# Altium footprint library BLDC.PcbLib: 51 footprints (part 3 of 4)
Each footprint in its own frame and in the unit in brackets; x right, y up, seen from the top. Pads: shape width x height; smd on the part's side, far side on the other; paste and mask are expansions set on the pad; w line width, h text height; cw(c..) or ccw(c..) is an arc to the next point about the centre after c.
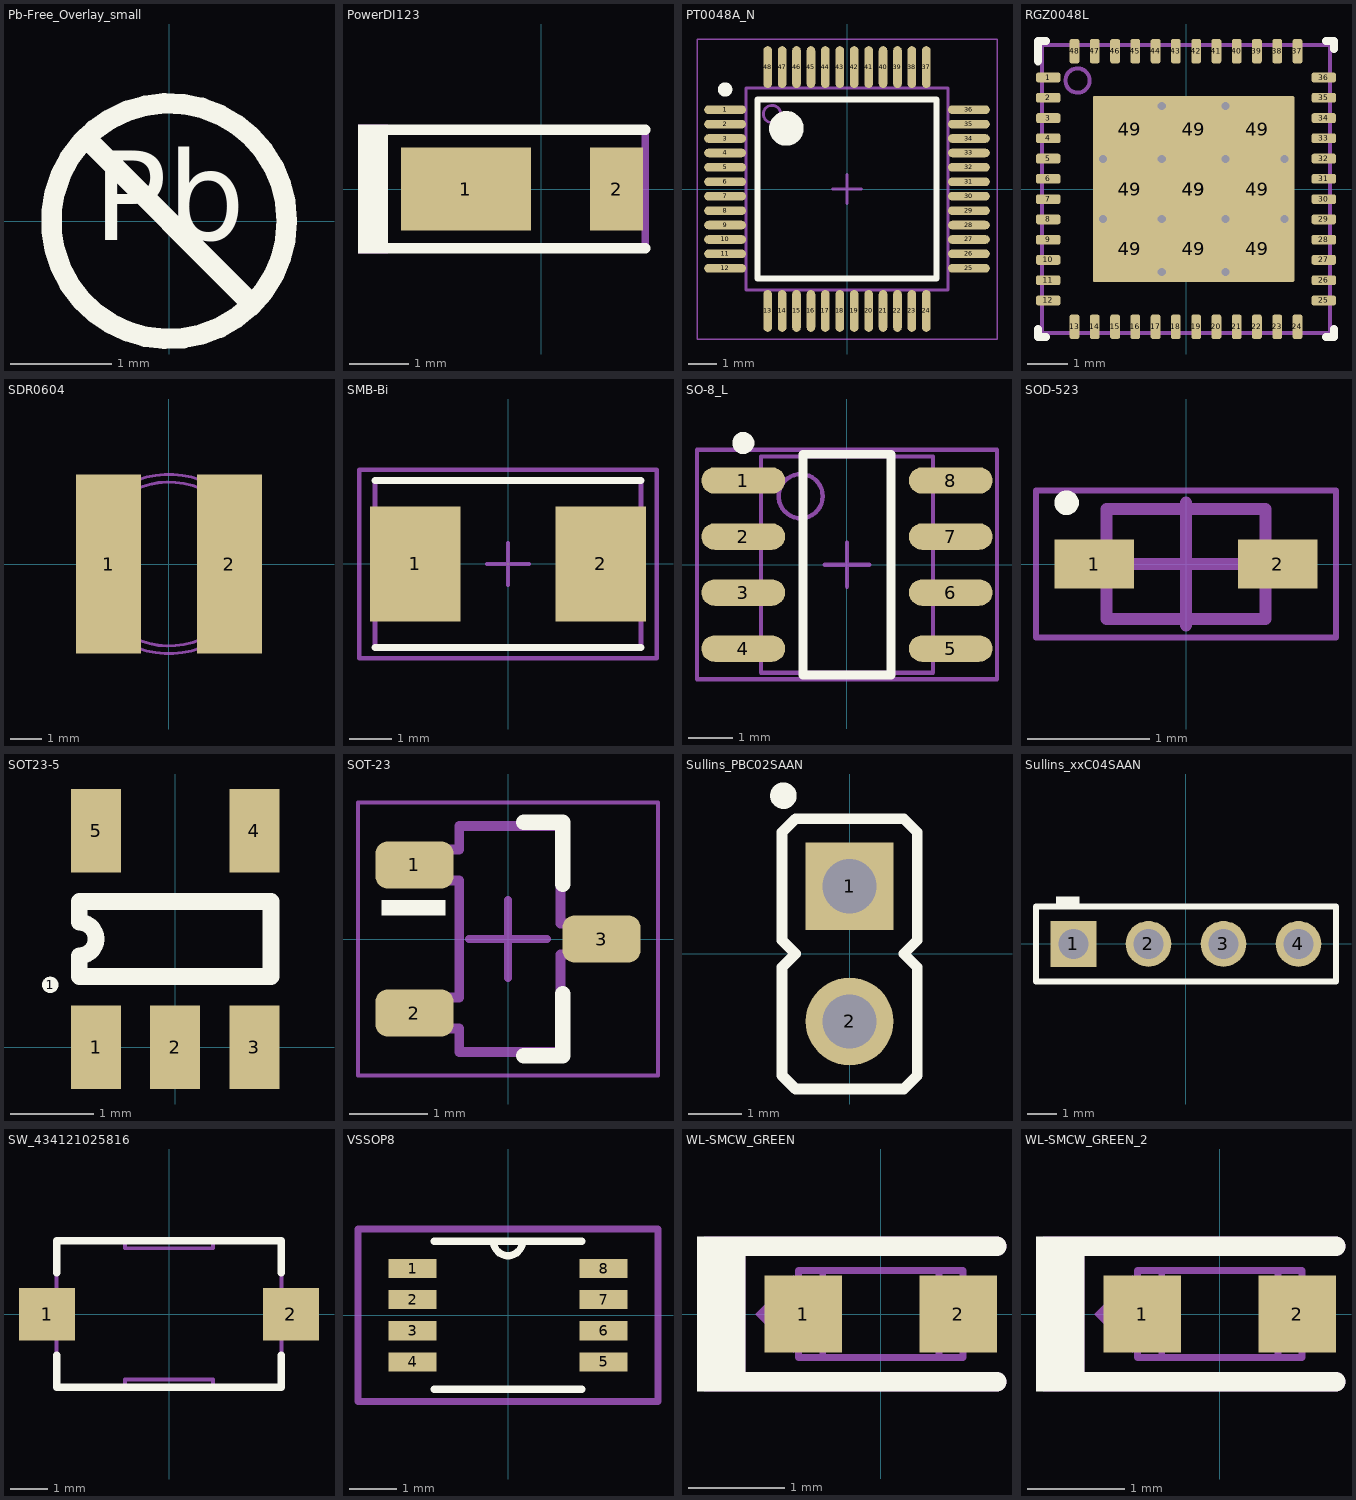
[diagram p2: the footprints below, top view; thin cyan lines are the x and y axes]

## Pb-Free_Overlay_small [mm]
height 1.45
Top Overlay:
  circle w0.203: c0,0 r1.168
  lines w0.203: -0.826,0.826 0.826,-0.826
  text "Pb" at -0.752,-0.48 h1.52

## PowerDI123 [mm] "Diodes Inc recommended land pattern, document number DS30628 Rev. 6-2"
height 1
pads (2):
  rect 2.2x1.4 smd: 1(-1.275,0)
  rect 0.9x1.4 smd: 2(1.275,0)
Top Overlay:
  rectangle: -3.099,-1.092 -2.591,1.092
  lines w0.178: -2.946,-1.003 1.759,-1.003 ; -2.946,1.003 1.759,1.003
Mechanical 5:
  rectangle: -3.099,-1.092 -2.591,1.092
  lines w0.127: -2.946,-1.003 1.759,-1.003 1.759,1.003 -2.946,1.003
  text ".Designator" at -2.35,-0.275 h0.76
3D body: height 1, standoff 0, extent -2.375,-0.965 1.525,0.965

## PT0048A_N [mm] "Thin QFP, 48-Leads, Body 7x7mm, Pitch 0.5mm, IPC Medium Density"
height 1.6
pads (48):
  oval 1.45x0.3 smd: 1(-4.225,2.75) 2(-4.225,2.25) 3(-4.225,1.75) 4(-4.225,1.25) 5(-4.225,0.75) 6(-4.225,0.25) 7(-4.225,-0.25) 8(-4.225,-0.75) 9(-4.225,-1.25) 10(-4.225,-1.75) 11(-4.225,-2.25) 12(-4.225,-2.75) 25(4.225,-2.75) 26(4.225,-2.25) 27(4.225,-1.75) 28(4.225,-1.25) 29(4.225,-0.75) 30(4.225,-0.25) 31(4.225,0.25) 32(4.225,0.75) 33(4.225,1.25) 34(4.225,1.75) 35(4.225,2.25) 36(4.225,2.75)
  oval 0.3x1.45 smd: 13(-2.75,-4.225) 14(-2.25,-4.225) 15(-1.75,-4.225) 16(-1.25,-4.225) 17(-0.75,-4.225) 18(-0.25,-4.225) 19(0.25,-4.225) 20(0.75,-4.225) 21(1.25,-4.225) 22(1.75,-4.225) 23(2.25,-4.225) 24(2.75,-4.225) 37(2.75,4.225) 38(2.25,4.225) 39(1.75,4.225) 40(1.25,4.225) 41(0.75,4.225) 42(0.25,4.225) 43(-0.25,4.225) 44(-0.75,4.225) 45(-1.25,4.225) 46(-1.75,4.225) 47(-2.25,4.225) 48(-2.75,4.225)
Top Overlay:
  circle w0.25: c-4.225,3.45 r0.125
  circle w0.6: c-2.1,2.1 r0.3
  lines w0.2: -3.1,-3.1 -3.1,3.1 3.1,3.1 3.1,-3.1 -3.1,-3.1
Mechanical 5:
  circle w0.1: c-2.6,2.6 r0.3
  lines w0.1: -3.5,-3.5 -3.5,3.5 3.5,3.5 3.5,-3.5 -3.5,-3.5
  text ".Designator" at -1.854,-0.508 h1.02
Mechanical 15:
  lines w0.05: -5.2,-5.2 -5.2,5.2 5.2,5.2 5.2,-5.2 -5.2,-5.2
  lines w0.1: -0.5,0 0.5,0 ; 0,-0.5 0,0.5
3D body: height 1.5, standoff 0, extent -4.508,-4.508 4.508,4.508

## RGZ0048L [mm] "QFN, 48-Leads, Body 7x7mm, Pitch 0.5mm, Thermal Pad 4.975x4.6mm, TI Recommended"
height 1
pads (58):
  rrect42% 0.6x0.24 smd: 1(-3.4,2.75) 2(-3.4,2.25) 3(-3.4,1.75) 4(-3.4,1.25) 5(-3.4,0.75) 6(-3.4,0.25) 7(-3.4,-0.25) 8(-3.4,-0.75) 9(-3.4,-1.25) 10(-3.4,-1.75) 11(-3.4,-2.25) 12(-3.4,-2.75) 25(3.4,-2.75) 26(3.4,-2.25) 27(3.4,-1.75) 28(3.4,-1.25) 29(3.4,-0.75) 30(3.4,-0.25) 31(3.4,0.25) 32(3.4,0.75) 33(3.4,1.25) 34(3.4,1.75) 35(3.4,2.25) 36(3.4,2.75)
  rrect42% 0.24x0.6 smd: 13(-2.75,-3.4) 14(-2.25,-3.4) 15(-1.75,-3.4) 16(-1.25,-3.4) 17(-0.75,-3.4) 18(-0.25,-3.4) 19(0.25,-3.4) 20(0.75,-3.4) 21(1.25,-3.4) 22(1.75,-3.4) 23(2.25,-3.4) 24(2.75,-3.4) 37(2.75,3.4) 38(2.25,3.4) 39(1.75,3.4) 40(1.25,3.4) 41(0.75,3.4) 42(0.25,3.4) 43(-0.25,3.4) 44(-0.75,3.4) 45(-1.25,3.4) 46(-1.75,3.4) 47(-2.25,3.4) 48(-2.75,3.4)
  rrect50% 1.37x1.28 on Top Paste: 49(-1.382,-1.48) 49(-1.382,0) 49(-1.382,1.48) 49(0.188,-1.48) 49(0.188,0) 49(0.188,1.48) 49(1.758,-1.48) 49(1.758,0) 49(1.758,1.48)
  rrect2% 4.975x4.6 smd paste-2.575: 49(0.188,0)
via -2.05,0.74 diameter 0.5 hole 0.2
via -0.597,0.74 diameter 0.5 hole 0.2
via 2.426,-0.74 diameter 0.5 hole 0.2
via 2.426,0.74 diameter 0.5 hole 0.2
via -0.597,2.05 diameter 0.5 hole 0.2
via 0.973,2.05 diameter 0.5 hole 0.2
via 0.973,0.74 diameter 0.5 hole 0.2
via 0.973,-2.05 diameter 0.5 hole 0.2
via -2.05,-0.74 diameter 0.5 hole 0.2
via -0.597,-2.05 diameter 0.5 hole 0.2
via 0.973,-0.74 diameter 0.5 hole 0.2
via -0.597,-0.74 diameter 0.5 hole 0.2
Top Overlay:
  lines w0.2: -3.65,-3.45 -3.65,-3.65 -3.45,-3.65 ; -3.65,3.15 -3.65,3.65 -3.45,3.65 ; 3.45,-3.65 3.65,-3.65 3.65,-3.45 ; 3.45,3.65 3.65,3.65 3.65,3.45
Mechanical 5:
  circle w0.1: c-2.675,2.675 r0.3
  lines w0.1: -3.55,-3.55 -3.55,3.55 3.55,3.55 3.55,-3.55 -3.55,-3.55
  text ".Designator" at -2,-0.7 h1.85
3D body: height 1, standoff 0, extent -3.5,-3.5 3.5,3.5

## SDR0604 [mm] "BOURNS"
height 4.8
pads (2):
  rect 2.1x5.8 smd: 1(-1.95,0) 2(1.95,0)
Mechanical 5:
  circle w0.1: c0,0 r2.65
  circle w0.1: c0,0 r2.9
  text ".Designator" at -1.675,-0.5 h1
3D body: height 3.8, standoff 1.2, extent -2.658,-2.658 2.658,2.658
3D body: height 4.8, standoff 3.8, extent -2.908,-2.908 2.908,2.908
3D body: height 1.2, standoff 0, extent -2.908,-2.908 2.908,2.908

## SMB-Bi [mm] "Molded Diode, 2-Leads, Body 5.4x3.6mm, IPC Medium Density, based on OnSemi component dimensions"
height 2.65
pads (2):
  rect 2.159x2.743 smd: 1(-2.21,0) 2(2.21,0)
Top Overlay:
  lines w0.178: -3.175,-1.994 3.175,-1.994 ; -3.175,1.994 3.175,1.994
Mechanical 5:
  lines w0.127: -3.175,-1.994 -3.175,-1.765 -3.175,1.765 -3.175,1.994 3.175,1.994 3.175,1.765 3.175,-1.765 3.175,-1.994 -3.175,-1.994
  text ".Designator" at -2.311,-0.508 h1.02
Mechanical 15:
  lines w0.1: -0.5,0 0.5,0 ; 0,-0.5 0,0.5 ; -3.55,-2.25 3.55,-2.25 3.55,2.25 -3.55,2.25 -3.55,-2.25
3D body: height 2.26, standoff 0.01, extent -2.65,-1.85 2.65,1.85

## SO-8_L [mm] "SOIC, 8-Leads, Body 4.9x3.9mm, Pitch 1.27mm, IPC High Density"
height 1.75
pads (8):
  oval 1.9x0.6 smd: 1(-2.35,1.905) 2(-2.35,0.635) 3(-2.35,-0.635) 4(-2.35,-1.905) 5(2.35,-1.905) 6(2.35,-0.635) 7(2.35,0.635) 8(2.35,1.905)
Top Overlay:
  circle w0.25: c-2.35,2.755 r0.125
  lines w0.2: -1,-2.5 1,-2.5 1,2.5 -1,2.5 -1,-2.5
Mechanical 13:
  circle w0.1: c-1.05,1.55 r0.5
  lines w0.1: -1.95,-2.45 -1.95,2.45 1.95,2.45 1.95,-2.45 -1.95,-2.45
  text ".Designator" at 0,0 h1.52
Mechanical 15:
  lines w0.1: -0.5,0 0.5,0 ; 0,-0.5 0,0.5 ; -3.4,-2.6 3.4,-2.6 3.4,2.6 -3.4,2.6 -3.4,-2.6
3D body: height 1.45, standoff 0, extent -2.889,-2.413 2.889,2.489

## SOD-523 [mm] "SODFL, 2-Leads, Body 0.80x1.60mm, IPC Medium Density"
height 0.7
pads (2):
  rect 0.65x0.4 smd: 1(-0.75,0) 2(0.75,0)
Top Overlay:
  circle w0.1: c-0.975,0.5 r0.05
Mechanical 13:
  lines w0.1: -0.65,-0.45 0.65,-0.45 0.65,0.45 -0.65,0.45 -0.65,-0.45
Mechanical 15:
  lines w0.05: -1.225,-0.6 1.225,-0.6 1.225,0.6 -1.225,0.6 -1.225,-0.6
  lines w0.1: -0.5,0 0.5,0 ; 0,-0.5 0,0.5
3D body: height 0.7, standoff 0, extent -0.65,-0.45 0.65,0.45

## SOT23-5 [mm] "SOT23-5 SMD"
height 2
pads (6):
  round 0.2 on Top Overlay: 1(-1.5,0.75)
  rect 0.6x1 smd: 1(-0.95,0) 2(0,0) 3(0.95,0) 4(0.95,2.6) 5(-0.95,2.6)
Top Overlay:
  lines w0.2: -1.15,0.85 -1.15,1.1 ccw(c-1.15,1.3) -1.15,1.5 -1.15,1.75 1.15,1.75 1.15,0.85 -1.15,0.85
3D body: height 1, standoff 0, extent -1.46,0.13 1.46,2.47

## SOT-23 [mm] "SOT23, 3-Leads, Body 2.9x1.3mm, Pitch 0.95mm, Lead Span 2.5mm, IPC Medium Density"
height 1.1
pads (3):
  rrect50% 1x0.6 smd: 1(-1.2,0.95) 2(-1.2,-0.95) 3(1.2,0)
Top Overlay:
  rectangle: -1.625,0.3 -0.8,0.5
  lines w0.2: 0.2,-1.5 0.7,-1.5 0.7,-0.7 ; 0.2,1.5 0.7,1.5 0.7,0.7
Mechanical 5:
  lines w0.127: -1.16,-1.15 -1.16,-0.75 -0.625,-0.75 -0.625,0.75 -1.16,0.75 -1.16,1.15 -0.625,1.15 -0.625,1.45 0.675,1.45 0.675,0.2 1.21,0.2 1.21,-0.2 0.675,-0.2 0.675,-1.45 -0.625,-1.45 -0.625,-1.15 -1.16,-1.15
  text ".Designator" at -0.175,1.225 h0.64
Mechanical 15:
  lines w0.05: -1.925,-1.75 1.925,-1.75 1.925,1.75 -1.925,1.75 -1.925,-1.75
  lines w0.1: -0.5,0 0.5,0 ; 0,-0.5 0,0.5
3D body: height 1, standoff 0, extent -1.16,-1.45 1.21,1.45

## Sullins_PBC02SAAN [mm] "Sullins 100mil, 1x2, 230 mil above insulator"
height 8.382
pads (2):
  rect 1.65x1.65 hole 1.016: 1(0,1.27)
  round 1.65 hole 1.016: 2(0,-1.27)
Top Overlay:
  circle w0.25: c-1.245,2.972 r0.125
  lines w0.2: -1.27,-2.286 -1.27,-0.254 -1.016,0 -1.27,0.254 -1.27,2.286 -1.016,2.54 1.016,2.54 1.27,2.286 1.27,0.254 1.016,0 1.27,-0.254 1.27,-2.286 1.016,-2.54 -1.016,-2.54 -1.27,-2.286
Mechanical 5:
  lines w0.1: -1.27,-2.286 -1.016,-2.54 1.016,-2.54 1.27,-2.286 1.27,-0.254 1.016,0 1.27,0.254 1.27,2.286 1.016,2.54 -1.016,2.54 -1.27,2.286 -1.27,0.254 -1.016,0 -1.27,-0.254 -1.27,-2.286
  text ".Designator" at -0.8,-0.1 h0.38
3D body: height 2.54, standoff 0, extent -1.27,-2.54 1.27,2.54
3D body: height 8.38, standoff -3.05, extent -0.317,-1.587 0.317,-0.953
3D body: height 8.38, standoff -3.05, extent -0.317,0.953 0.317,1.587

## Sullins_xxC04SAAN [mm] "Header, 2.54 mm, 4x1, TH"
height 8.71
pads (4):
  rect 1.55x1.55 hole 1.016: 1(-3.81,0)
  round 1.55 hole 1.016: 2(-1.27,0) 3(1.27,0) 4(3.81,0)
Top Overlay:
  rectangle: -4.4,1.3 -3.6,1.6
  lines w0.2: -5.08,-1.27 -5.08,1.27 5.08,1.27 5.08,-1.27 -5.08,-1.27
Mechanical 5:
  lines w0.1: -5.08,-1.27 5.08,-1.27 5.08,1.27 -5.08,1.27 -5.08,-1.27
  text ".Designator" at -1.524,-0.508 h1.02
3D body: height 8.38, standoff -3.05, extent -5.08,-1.27 5.08,1.27

## SW_434121025816 [mm] "SMD, 2-Leads, Body 6x3.9mm, Pitch 6.5mm"
height 2.65
pads (2):
  rect 1.5x1.4 smd: 1(-3.25,0) 2(3.25,0)
Top Overlay:
  lines w0.2: -3,-1.1 -3,-1.95 3,-1.95 3,-1.1 ; -3,1.1 -3,1.95 3,1.95 3,1.1
Mechanical 5:
  lines w0.1: -3,-0.5 -3.65,-0.5 -3.65,0.5 -3,0.5 ; -1.175,-1.95 -1.175,-1.75 1.175,-1.75 1.175,-1.95 ; -1.175,1.95 -1.175,1.75 1.175,1.75 1.175,1.95 ; 3,-0.5 3.65,-0.5 3.65,0.5 3,0.5 ; -3,-1.95 -3,1.95 3,1.95 3,-1.95 -3,-1.95
  text ".Designator" at -2.2,-0.375 h1.02
3D body: height 2.5, standoff 0, extent -3.65,-1.95 3.65,1.95

## VSSOP8 [mm]
height 1.1
pads (8):
  rect 1x0.4 smd mask+0.102: 1(-1.997,0.975) 2(-1.997,0.325) 3(-1.997,-0.325) 4(-1.997,-0.975) 5(2,-0.975) 6(2,-0.325) 7(2,0.325) 8(2,0.975)
Top Overlay:
  lines w0.152: -1.549,-1.549 1.549,-1.549 ; -1.549,1.549 1.549,1.549 ; -0.305,1.549 ccw(c0,1.549) 0.305,1.549
Mechanical 13:
  lines w0: -0.305,1.549 ccw(c0,1.549) 0.305,1.549
  text ".Designator" at 0,0 h1.27
Mechanical 15:
  lines w0.152: -3.137,-1.803 3.137,-1.803 3.137,1.803 -3.137,1.803 -3.137,-1.803
3D body: height 1.1, standoff 0.03, extent -2.45,-1.5 2.45,1.5

## WL-SMCW_GREEN [mm] "WURTH"
height 0.8
pads (2):
  rect 0.8x0.8 smd: 1(-0.8,0) 2(0.8,0)
Top Overlay:
  rectangle: -1.9,-0.8 -1.4,0.8
  lines w0.2: -1.6,-0.7 1.2,-0.7 ; -1.6,0.7 1.2,0.7
Mechanical 5:
  region: -0.9,-0.4 -0.9,0.4 -1.3,0
  lines w0.2: -1.65,-0.7 -1.65,0.55 ; 1.2,-0.7 -1.5,-0.7 ; 1.2,0.7 -1.5,0.7 ; -1.5,-0.7 -1.8,-0.7 -1.8,0.7 -1.5,0.7 ; -1.5,-0.7 -1.5,0.7
  text ".Designator" at -0.8,-0.3 h0.45
Mechanical 13:
  lines w0.07: -0.6,-0.45 -0.6,0.45 ; 0.6,-0.45 0.6,0.45 ; -0.85,-0.45 0.85,-0.45 0.85,0.45 -0.85,0.45 -0.85,-0.45
3D body: height 0.8, standoff 0.35, extent -0.599,-0.449 0.599,0.449
3D body: height 0.35, standoff 0, extent 0.601,-0.449 0.849,0.449
3D body: height 0.35, standoff 0, extent -0.599,-0.449 0.599,0.449
3D body: height 0.35, standoff 0, extent -0.849,-0.449 -0.601,0.449

## WL-SMCW_GREEN_2 [mm]
pads (2):
  rect 0.8x0.8 smd: 1(-0.8,0) 2(0.8,0)
Top Overlay:
  rectangle: -1.9,-0.8 -1.4,0.8
  lines w0.2: -1.6,-0.7 1.2,-0.7 ; -1.6,0.7 1.2,0.7
Mechanical 5:
  region: -0.9,-0.4 -0.9,0.4 -1.3,0
  lines w0.2: -1.65,-0.7 -1.65,0.55 ; 1.2,-0.7 -1.5,-0.7 ; 1.2,0.7 -1.5,0.7 ; -1.5,-0.7 -1.8,-0.7 -1.8,0.7 -1.5,0.7 ; -1.5,-0.7 -1.5,0.7
  text ".Designator" at -0.306,-0.331 h0.64
Mechanical 13:
  lines w0.07: -0.6,-0.45 -0.6,0.45 ; 0.6,-0.45 0.6,0.45 ; -0.85,-0.45 0.85,-0.45 0.85,0.45 -0.85,0.45 -0.85,-0.45
3D body: height 0.8, standoff 0.35, extent -0.599,-0.449 0.599,0.449
3D body: height 0.35, standoff 0, extent 0.601,-0.449 0.849,0.449
3D body: height 0.35, standoff 0, extent -0.599,-0.449 0.599,0.449
3D body: height 0.35, standoff 0, extent -0.849,-0.449 -0.601,0.449